# Altium schematic symbol library SS8050-G.SchLib: 2 symbols
Pins are listed as number, name and electrical type; pins without a type are passive.

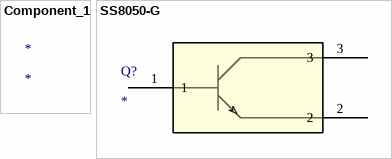
[diagram p0: symbols Component_1 to SS8050-G]

## Component_1
designator *

## SS8050-G
designator Q?
No Description Available; Mfr_Name: Comchip; RefDes: RefDes; Type: Type
footprint TRAN_SS8050-G_CIP
pins: 1, 2, 3